# Altium schematic symbol library AD5293.Schlib: 1 symbol
Pins are listed as number, name and electrical type; pins without a type are passive.

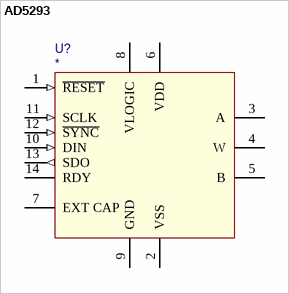
[diagram p0: symbol AD5293]

## AD5293
designator U?
pins: 1 ~{RESET} (in), 2 VSS, 3 A, 4 W, 5 B, 6 VDD, 7 EXT CAP (power), 8 VLOGIC (power), 9 GND, 10 DIN (in), 11 SCLK (in), 12 ~{SYNC} (in), 13 SDO (out), 14 RDY (oc)